# EAGLE library part FPC-0.3X51 (library pimoroni-connectors)
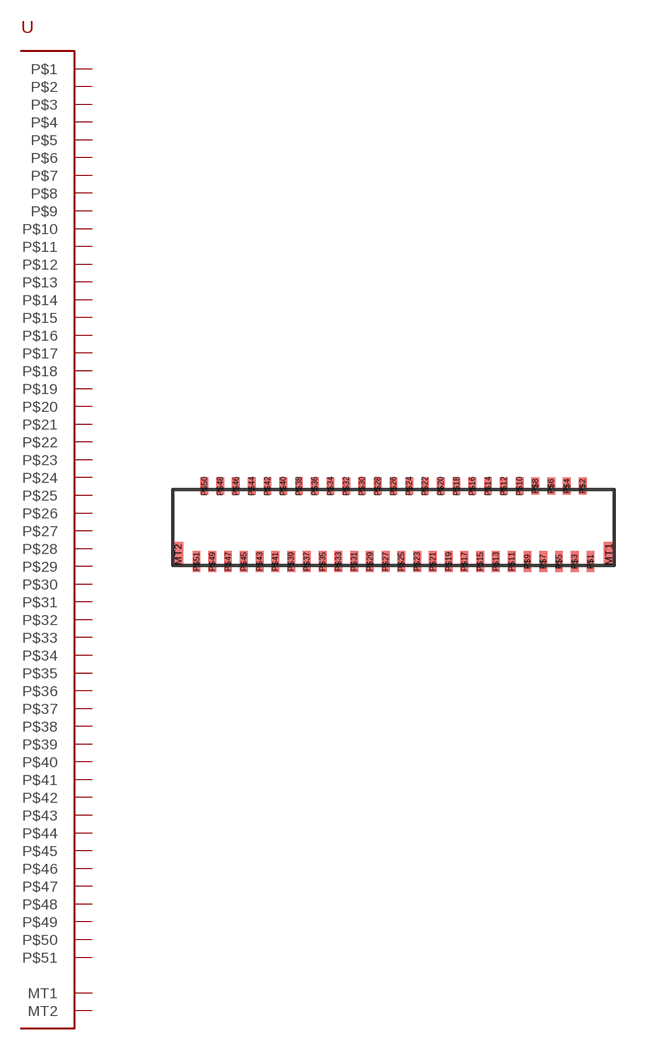
[diagram p6: symbol with the pads of FPC_0.3X51; footprint FPC_0.3X51]

Designator prefix -

## FPC-0.3X51  [FPC_0.3X51]
MT1  MT1
MT2  MT2
P$1  P$1
P$2  P$2
P$3  P$3
P$4  P$4
P$5  P$5
P$6  P$6
P$7  P$7
P$8  P$8
P$9  P$9
P$10  P$10
P$11  P$11
P$12  P$12
P$13  P$13
P$14  P$14
P$15  P$15
P$16  P$16
P$17  P$17
P$18  P$18
P$19  P$19
P$20  P$20
P$21  P$21
P$22  P$22
P$23  P$23
P$24  P$24
P$25  P$25
P$26  P$26
P$27  P$27
P$28  P$28
P$29  P$29
P$30  P$30
P$31  P$31
P$32  P$32
P$33  P$33
P$34  P$34
P$35  P$35
P$36  P$36
P$37  P$37
P$38  P$38
P$39  P$39
P$40  P$40
P$41  P$41
P$42  P$42
P$43  P$43
P$44  P$44
P$45  P$45
P$46  P$46
P$47  P$47
P$48  P$48
P$49  P$49
P$50  P$50
P$51  P$51

## Footprint FPC_0.3X51 (pad centres in mm)
smd 0.4 x 0.95: MT1 8.2,-2.925; MT2 -8.2,-2.925
smd 0.3 x 0.8: P$1 7.5,-3.2; P$3 6.9,-3.2; P$5 6.3,-3.2; P$7 5.7,-3.2; P$9 5.1,-3.2; P$11 4.5,-3.2; P$13 3.9,-3.2; P$15 3.3,-3.2; P$17 2.7,-3.2; P$19 2.1,-3.2; P$21 1.5,-3.2; P$23 0.9,-3.2; P$25 0.3,-3.2; P$27 -0.3,-3.2; P$29 -0.9,-3.2; P$31 -1.5,-3.2; P$33 -2.1,-3.2; P$35 -2.7,-3.2; P$37 -3.3,-3.2; P$39 -3.9,-3.2; P$41 -4.5,-3.2; P$43 -5.1,-3.2; P$45 -5.7,-3.2; P$47 -6.3,-3.2; P$49 -6.9,-3.2; P$51 -7.5,-3.2
smd 0.3 x 0.65: P$2 7.2,-0.325; P$4 6.6,-0.325; P$6 6,-0.325; P$8 5.4,-0.325; P$10 4.8,-0.325; P$12 4.2,-0.325; P$14 3.6,-0.325; P$16 3,-0.325; P$18 2.4,-0.325; P$20 1.8,-0.325; P$22 1.2,-0.325; P$24 0.6,-0.325; P$26 0,-0.325; P$28 -0.6,-0.325; P$30 -1.2,-0.325; P$32 -1.8,-0.325; P$34 -2.4,-0.325; P$36 -3,-0.325; P$38 -3.6,-0.325; P$40 -4.2,-0.325; P$42 -4.8,-0.325; P$44 -5.4,-0.325; P$46 -6,-0.325; P$48 -6.6,-0.325; P$50 -7.2,-0.325